# Altium footprint library user.PcbLib: 17 footprints (part 1 of 2)
Each footprint in its own frame and in the unit in brackets; x right, y up, seen from the top. Pads: shape width x height; smd on the part's side, far side on the other; paste and mask are expansions set on the pad; w line width, h text height; cw(c..) or ccw(c..) is an arc to the next point about the centre after c.
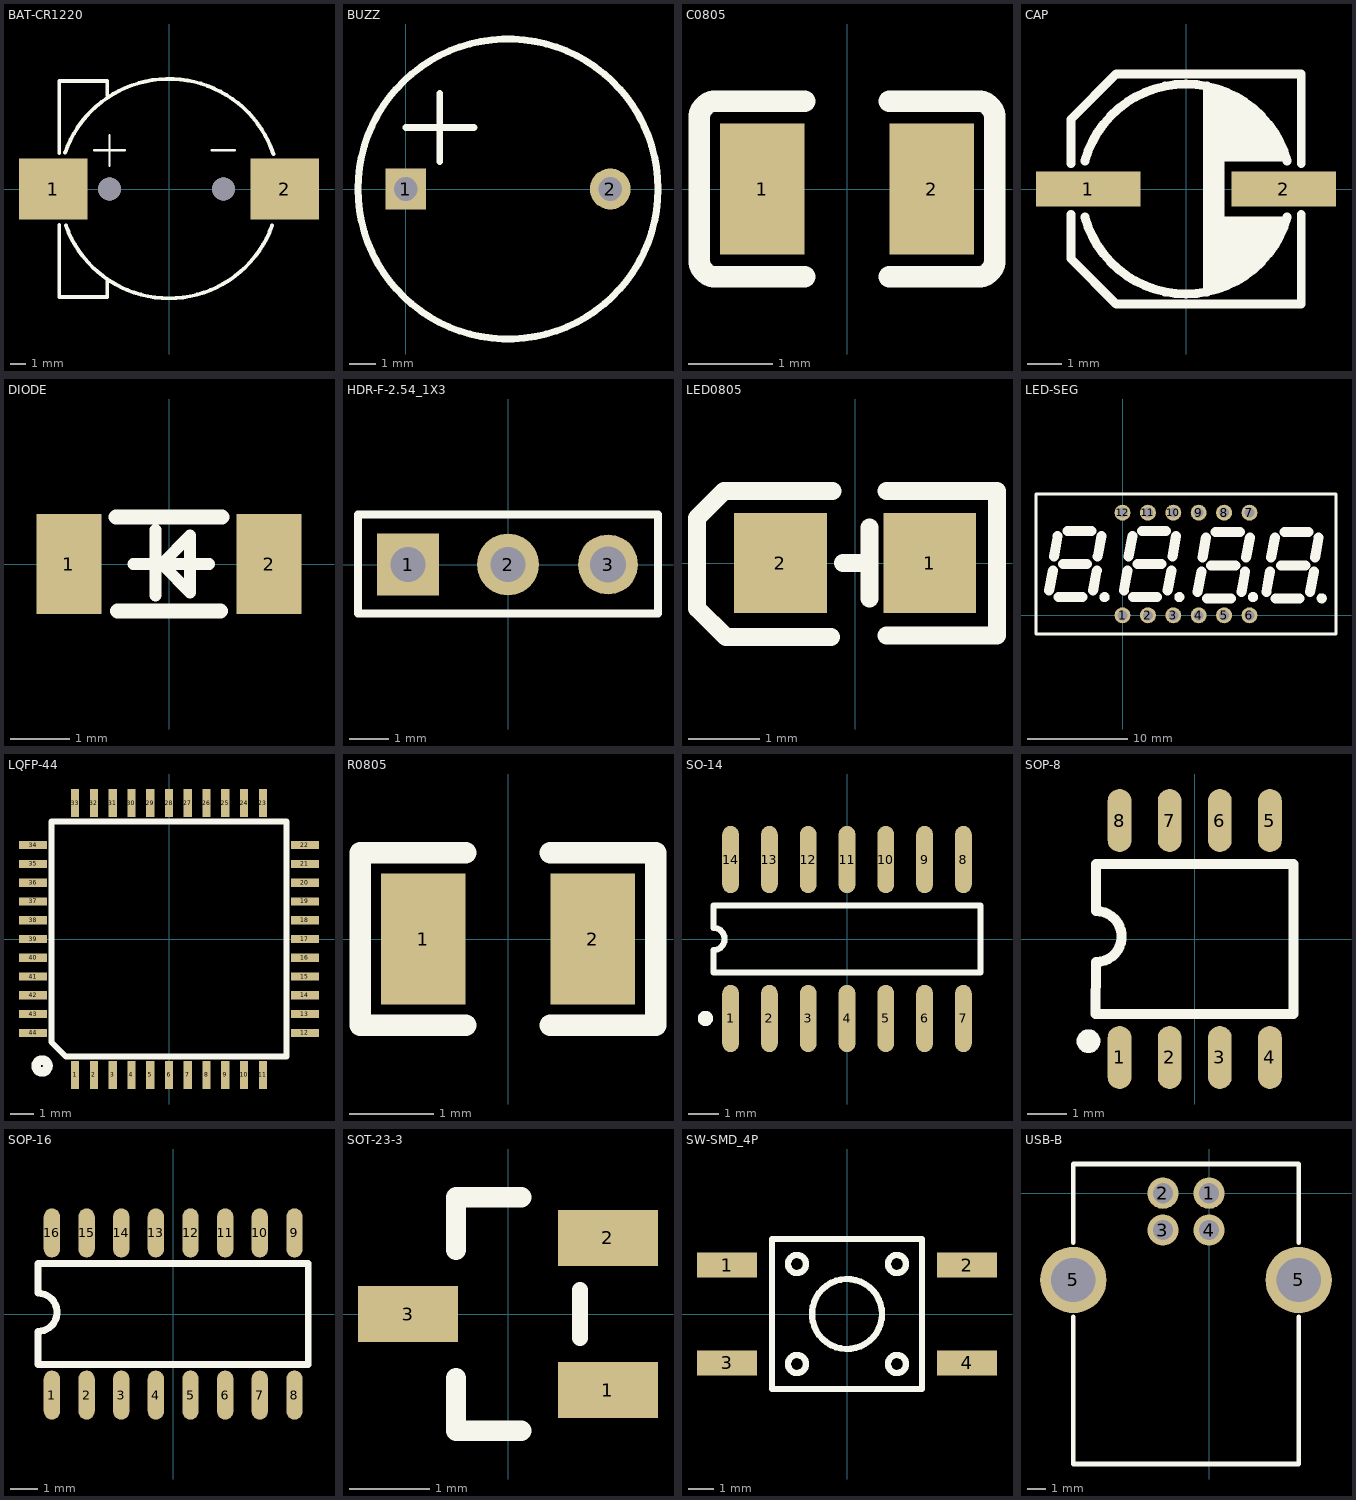
[diagram p0: the footprints below, top view; thin cyan lines are the x and y axes]

## BAT-CR1220 [mm]
pads (4):
  rect 4.5x4 smd: 1(-7.62,0) 2(7.62,0)
  round 1.5 hole 1.5 unplated: ""(-3.912,0) ""(3.581,0)
Top Overlay:
  lines w0.152: -4.928,2.54 -2.896,2.54 ; -3.912,1.524 -3.912,3.556 ; 2.819,2.54 4.343,2.54
  lines w0.254: -7.22,-2.362 -7.22,-7.112 -4.064,-7.112 -4.064,-5.912 ; -7.22,2.362 -7.22,7.112 -4.064,7.112 -4.064,6.171 ; -6.835,2.405 cw(c0,0) 6.873,2.291 ; -6.785,-2.387 ccw(c0,0) 6.785,-2.387

## BUZZ [mil]
pads (2):
  rect 60x60 hole 35: 1(0,0)
  round 60 hole 35: 2(300,0)
Top Overlay:
  circle w10: c150,0 r220
  lines w10: 0,90 100,90 ; 50,40 50,140

## C0805 [mm]
pads (2):
  rect 1x1.55 smd: 1(-1,0) 2(1,0)
Top Overlay:
  lines w0.254: -1.75,0.82 -1.75,0.8 ; -0.5,-1.04 -1.55,-1.04 cw(c-1.55,-0.84) -1.75,-0.84 -1.75,-0.8 -1.75,0.8 ; -0.5,1.04 -1.55,1.04 ccw(c-1.55,0.84) -1.75,0.84 -1.75,0.8 ; 0.5,-1.04 1.55,-1.04 ccw(c1.55,-0.84) 1.75,-0.84 1.75,-0.8 1.75,0.8 1.75,0.84 ccw(c1.55,0.84) 1.55,1.04 0.5,1.04

## CAP [mm]
pads (2):
  rect 3x1 smd: 1(-2.8,0) 2(2.8,0)
Top Overlay:
  region: 0.5,-3 0.5,2.9 0.5,3 0.5,2.9 1.1,2.8 1.6,2.6 1.9,2.3 2.2,2.1 2.5,1.8 2.7,1.4 2.9,0.8 1.1,0.8 1.1,-0.8 2.9,-0.8 2.8,-1 2.7,-1.4 2.4,-1.7 2.2,-2.1 1.8,-2.4 1.4,-2.6 1,-2.8
  lines w0.254: -3.297,-0.732 -3.297,-1.999 -1.996,-3.299 3.302,-3.299 3.302,-0.732 ; -3.297,0.732 -3.297,1.999 -1.996,3.299 3.302,3.299 3.302,0.732 ; -2.9,-0.8 ccw(c0,0) 2.9,-0.8 ; -2.9,0.8 cw(c0,0) 2.9,0.8

## DIODE [mm]
pads (2):
  rect 1.1x1.7 smd: 1(-1.7,0) 2(1.7,0)
Top Overlay:
  lines w0.2: -0.61,0 0.686,0 ; -0.229,-0.533 -0.229,0.584 ; -0.127,0 0.356,0.483 0.356,-0.483 -0.102,-0.025
  lines w0.254: -0.9,0.8 0.9,0.8 ; -0.878,-0.8 0.878,-0.8

## HDR-F-2.54_1X3 [mil]
pads (3):
  rect 62x62 hole 35: 1(-100,0)
  round 62 hole 35: 2(0,0)
  round 60 hole 36: 3(100,0)
Top Overlay:
  lines w8: -150,-49 -150,50 50,50 150,50 150,-49 -150,-49

## LED0805 [mm]
pads (2):
  rect 1.3x1.4 smd: 1(1.05,0) 2(-1.05,0)
Top Overlay:
  lines w0.254: -0.344,-1.043 -1.817,-1.043 -2.224,-0.636 -2.224,0.634 -1.843,1.015 -0.319,1.015 ; -0.169,0 0.1,0 ; 0.2,-0.5 0.2,0.5 ; 0.443,-1.017 1.993,-1.017 1.993,1.015 0.443,1.015

## LED-SEG [mm]
pads (12):
  round 1.6 hole 1: 1(0,0) 2(2.54,0) 3(5.08,0) 4(7.62,0) 5(10.16,0) 6(12.7,0) 7(12.7,10.26) 8(10.16,10.26) 9(7.62,10.26) 10(5.08,10.26) 11(2.54,10.26) 12(0,10.26)
Top Overlay:
  circle w0.5: c19.923,1.701 r0.254
  circle w0.5: c-1.794,1.828 r0.254
  circle w0.5: c5.683,1.828 r0.254
  circle w0.5: c13.049,1.828 r0.254
  lines w0.254: -8.65,-1.87 -8.65,12.13 21.35,12.13 21.35,-1.87 -8.65,-1.87
  lines w1: -7.334,2.463 -6.953,4.495 ; -6.858,5.892 -6.477,7.924 ; -6.413,1.828 -4,1.828 ; -5.969,5.13 -3.556,5.13 ; -5.524,8.432 -3.111,8.432 ; -2.953,2.463 -2.572,4.495 ; -2.476,5.892 -2.095,7.924 ; 0.127,2.463 0.508,4.495 ; 0.603,5.892 0.984,7.924 ; 1.048,1.828 3.461,1.828 ; 1.492,5.13 3.905,5.13 ; 1.937,8.432 4.35,8.432 ; 4.508,2.463 4.889,4.495 ; 4.985,5.892 5.366,7.924 ; 7.509,2.336 7.89,4.368 ; 7.985,5.765 8.366,7.797 ; 8.43,1.701 10.843,1.701 ; 8.874,5.003 11.287,5.003 ; 9.319,8.305 11.732,8.305 ; 11.89,2.336 12.271,4.368 ; 12.367,5.765 12.748,7.797 ; 14.383,2.336 14.764,4.368 ; 14.859,5.765 15.24,7.797 ; 15.303,1.701 17.716,1.701 ; 15.875,5.003 18.288,5.003 ; 16.192,8.305 18.605,8.305 ; 18.764,2.336 19.145,4.368 ; 19.241,5.765 19.621,7.797

## LQFP-44 [mil]
pads (44):
  rect 13.8x47.24 smd: 1(-157.48,-228) 2(-125.98,-228) 3(-94.49,-228) 4(-62.99,-228) 5(-31.5,-228) 6(0,-228) 7(31.5,-228) 8(62.99,-228) 9(94.49,-228) 10(125.98,-228) 11(157.48,-228) 23(157.48,228) 24(125.98,228) 25(94.49,228) 26(62.99,228) 27(31.5,228) 28(0,228) 29(-31.5,228) 30(-62.99,228) 31(-94.49,228) 32(-125.98,228) 33(-157.48,228)
  rect 47.24x13.8 smd: 12(228,-157.48) 13(228,-125.98) 14(228,-94.49) 15(228,-62.99) 16(228,-31.5) 17(228,0) 18(228,31.5) 19(228,62.99) 20(228,94.49) 21(228,125.98) 22(228,157.48) 34(-228,157.48) 35(-228,125.98) 36(-228,94.49) 37(-228,62.99) 38(-228,31.5) 39(-228,0) 40(-228,-31.5) 41(-228,-62.99) 42(-228,-94.49) 43(-228,-125.98) 44(-228,-157.48)
Top Overlay:
  circle w16: c-213,-213 r10
  lines w10: -197,-173 -197,197 197,197 197,-197 -173,-197 -197,-173

## R0805 [mm]
pads (2):
  rect 1x1.55 smd: 1(-1,0) 2(1,0)
Top Overlay:
  lines w0.254: -0.5,-1.02 -1.75,-1.02 -1.75,1.02 -0.5,1.02 ; 0.5,-1.02 1.75,-1.02 1.75,1.02 0.5,1.02

## SO-14 [mm]
pads (14):
  oval 0.55x2.2 smd: 1(-3.81,-2.6) 2(-2.54,-2.6) 3(-1.27,-2.6) 4(0,-2.6) 5(1.27,-2.6) 6(2.54,-2.6) 7(3.81,-2.6) 8(3.81,2.6) 9(2.54,2.6) 10(1.27,2.6) 11(0,2.6) 12(-1.27,2.6) 13(-2.54,2.6) 14(-3.81,2.6)
Top Overlay:
  circle w0.25: c-4.635,-2.6 r0.125
  lines w0.2: -4.375,-1.1 4.375,-1.1 4.375,1.1 -4.375,1.1 -4.375,0.367 cw(c-4.375,0) -4.375,-0.367 -4.375,-1.1

## SOP-8 [mm]
pads (8):
  oval 0.6x1.598 smd: 1(-1.905,-3) 2(-0.635,-3) 3(0.635,-3) 4(1.905,-3) 5(1.905,3) 6(0.635,3) 7(-0.635,3) 8(-1.905,3)
Top Overlay:
  lines w0.254: -2.515,-1.905 -2.5,-0.584 ccw(c-2.5,0.064) -2.5,0.711 ; -2.5,-1.9 2.5,-1.9 2.5,1.9 -2.5,1.9 -2.5,0.711
  lines w0.3: -2.692,-2.438 ccw(c-2.691,-2.588) -2.69,-2.438

## SOP-16 [mm]
pads (16):
  oval 0.6x1.798 smd: 1(-4.445,-2.972) 2(-3.175,-2.972) 3(-1.905,-2.972) 4(-0.635,-2.972) 5(0.635,-2.972) 6(1.905,-2.972) 7(3.175,-2.972) 8(4.445,-2.972) 9(4.445,2.972) 10(3.175,2.972) 11(1.905,2.972) 12(0.635,2.972) 13(-0.635,2.972) 14(-1.905,2.972) 15(-3.175,2.972) 16(-4.445,2.972)
Top Overlay:
  lines w0.254: -4.953,0.762 cw(c-4.953,0.064) -4.953,-0.635 -4.953,-1.85 -4.95,-1.85 4.95,-1.85 4.95,1.85 -4.95,1.85 -4.95,0.762

## SOT-23-3 [mm]
pads (3):
  rect 1.25x0.7 smd: 1(1.25,-0.95) 2(1.25,0.95) 3(-1.25,0)
Top Overlay:
  lines w0.2: 0.9,-0.3 0.9,0.3
  lines w0.254: -0.65,-0.8 -0.65,-1.46 0.165,-1.46 ; 0.165,1.46 -0.65,1.46 ; -0.65,0.8 -0.65,1.46 ; -0.65,0.8 -0.65,1.46 ; -0.65,0.8 -0.65,1.46

## SW-SMD_4P [mm]
pads (4):
  rect 2.4x1 smd: 1(-4.8,1.95) 2(4.8,1.95) 3(-4.8,-1.95) 4(4.8,-1.95)
Top Overlay:
  circle w0.254: c2,-2 r0.361
  circle w0.254: c-2,-2 r0.361
  circle w0.254: c-2,2 r0.361
  circle w0.254: c2,2 r0.361
  circle w0.254: c0,0 r1.4
  lines w0.254: -3,-3 -3,3 3,3 3,-3 -3,-3

## USB-B [mm]
pads (6):
  round 1.7 hole 1.1: 1(0,0) 2(-2.5,0) 3(-2.5,-2) 4(0,-2)
  round 3.6 hole 2.4: 5(-7.366,-4.71) 5(4.866,-4.71)
Top Overlay:
  lines w0.254: -7.366,-6.709 -7.366,-14.698 4.866,-14.698 ; -7.366,-2.691 -7.366,1.586 ; 4.866,-14.696 4.866,-6.709 ; 4.866,-2.691 4.866,1.586
  lines w0.258: -7.366,-14.698 4.866,-14.698 ; -7.366,1.586 4.866,1.586